# Altium schematic symbol library SCH - HEADERS - Samtec - Jumper.SchLib: 1 symbol
Pins are listed as number, name and electrical type; pins without a type are passive.

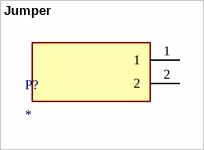
[diagram p0: symbol Jumper]

## Jumper
designator P?
Connector
pins: 1, 2